# EAGLE library part HLMP-2655 (library lightbar)
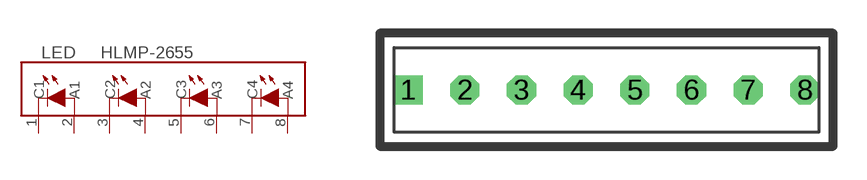
[diagram p0: symbol with the pads of SIP-08; footprint SIP-08]

Designator prefix LED

## HLMP-2655  [SIP-08]
1  C1  pas
2  A1  pas
3  C2  pas
4  A2  pas
5  C3  pas
6  A3  pas
7  C4  pas
8  A4  pas

## Footprint SIP-08 (pad centres in mm)
drill 0.8 square: 1 -8.89,0
drill 0.8 octagon: 2 -6.35,0; 3 -3.81,0; 4 -1.27,0; 5 1.27,0; 6 3.81,0; 7 6.35,0; 8 8.89,0